# EAGLE library part SN74HC14N (library 74HC14)
HEX SCHMITT-TRIGGER INVERTERS
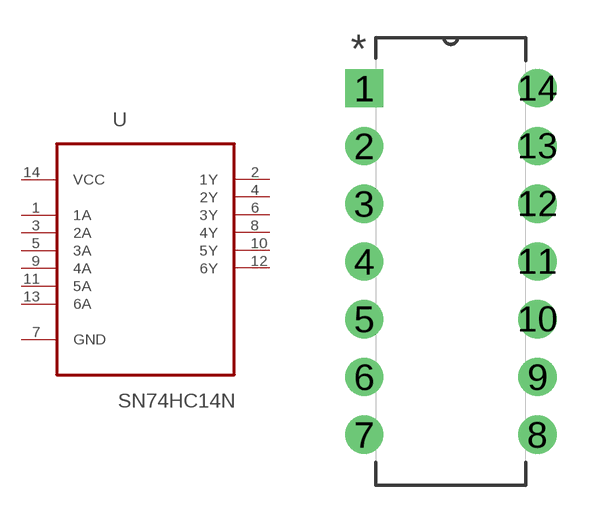
[diagram p0: symbol with the pads of DIP254P762X508-14; footprint DIP254P762X508-14]

Designator prefix U

## SN74HC14N (MPN: SN74HC14N; OC_FARNELL: 9591125; OC_NEWARK: 60K6826; PACKAGE: DIP-14; SUPPLIER: Texas Instruments)  [DIP254P762X508-14]
1  1A  in
2  1Y  out
3  2A  in
4  2Y  out
5  3A  in
6  3Y  out
7  GND  pas
8  4Y  out
9  4A  in
10  5Y  out
11  5A  in
12  6Y  out
13  6A  in
14  VCC  pwr

## Footprint DIP254P762X508-14 (pad centres in mm)
drill 1.118 square: 1 -7.62,15.24
drill 1.118: 2 -7.62,12.7; 3 -7.62,10.16; 4 -7.62,7.62; 5 -7.62,5.08; 6 -7.62,2.54; 7 -7.62,0; 8 0,0; 9 0,2.54; 10 0,5.08; 11 0,7.62; 12 0,10.16; 13 0,12.7; 14 0,15.24